# EAGLE library part DSPIC33FJ128MC708 (library microchip2)
dsPIC33 Motion Controller DSC with CAN port
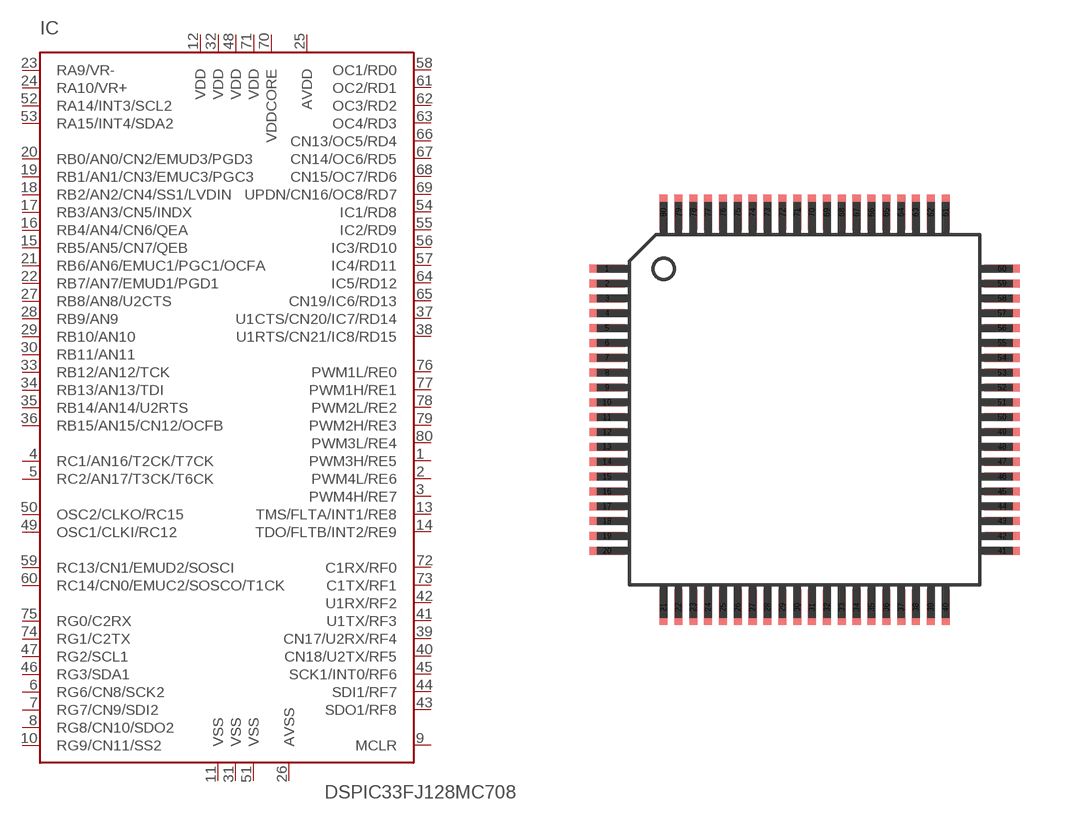
[diagram p224: symbol with the pads of TQFP80_12X12; footprint TQFP80_12X12]

Designator prefix IC

## DSPIC33FJ128MC708/PT  [TQFP80_12X12]
1  PWM3H/RE5
2  PWM4L/RE6
3  PWM4H/RE7
4  RC1/AN16/T2CK/T7CK
5  RC2/AN17/T3CK/T6CK
6  RG6/CN8/SCK2
7  RG7/CN9/SDI2
8  RG8/CN10/SDO2
9  MCLR  in
10  RG9/CN11/SS2
11  VSS  pwr
12  VDD  pwr
13  TMS/FLTA/INT1/RE8
14  TDO/FLTB/INT2/RE9
15  RB5/AN5/CN7/QEB
16  RB4/AN4/CN6/QEA
17  RB3/AN3/CN5/INDX
18  RB2/AN2/CN4/SS1/LVDIN
19  RB1/AN1/CN3/EMUC3/PGC3
20  RB0/AN0/CN2/EMUD3/PGD3
21  RB6/AN6/EMUC1/PGC1/OCFA
22  RB7/AN7/EMUD1/PGD1
23  RA9/VR-
24  RA10/VR+
25  AVDD  pwr
26  AVSS  pwr
27  RB8/AN8/U2CTS
28  RB9/AN9
29  RB10/AN10
30  RB11/AN11
31  VSS  pwr
32  VDD  pwr
33  RB12/AN12/TCK
34  RB13/AN13/TDI
35  RB14/AN14/U2RTS
36  RB15/AN15/CN12/OCFB
37  U1CTS/CN20/IC7/RD14
38  U1RTS/CN21/IC8/RD15
39  CN17/U2RX/RF4
40  CN18/U2TX/RF5
41  U1TX/RF3
42  U1RX/RF2
43  SDO1/RF8
44  SDI1/RF7
45  SCK1/INT0/RF6
46  RG3/SDA1
47  RG2/SCL1
48  VDD  pwr
49  OSC1/CLKI/RC12
50  OSC2/CLKO/RC15
51  VSS  pwr
52  RA14/INT3/SCL2
53  RA15/INT4/SDA2
54  IC1/RD8
55  IC2/RD9
56  IC3/RD10
57  IC4/RD11
58  OC1/RD0
59  RC13/CN1/EMUD2/SOSCI
60  RC14/CN0/EMUC2/SOSCO/T1CK
61  OC2/RD1
62  OC3/RD2
63  OC4/RD3
64  IC5/RD12
65  CN19/IC6/RD13
66  CN13/OC5/RD4
67  CN14/OC6/RD5
68  CN15/OC7/RD6
69  UPDN/CN16/OC8/RD7
70  VDDCORE  pwr
71  VDD  pwr
72  C1RX/RF0
73  C1TX/RF1
74  RG1/C2TX
75  RG0/C2RX
76  PWM1L/RE0
77  PWM1H/RE1
78  PWM2L/RE2
79  PWM2H/RE3
80  PWM3L/RE4

## Footprint TQFP80_12X12 (pad centres in mm)
Thin Quad Flat Pack
smd 1.2 x 0.27: 1 -6.65,4.75; 2 -6.65,4.25; 3 -6.65,3.75; 4 -6.65,3.25; 5 -6.65,2.75; 6 -6.65,2.25; 7 -6.65,1.75; 8 -6.65,1.25; 9 -6.65,0.75; 10 -6.65,0.25; 11 -6.65,-0.25; 12 -6.65,-0.75; 13 -6.65,-1.25; 14 -6.65,-1.75; 15 -6.65,-2.25; 16 -6.65,-2.75; 17 -6.65,-3.25; 18 -6.65,-3.75; 19 -6.65,-4.25; 20 -6.65,-4.75; 41 6.65,-4.75; 42 6.65,-4.25; 43 6.65,-3.75; 44 6.65,-3.25; 45 6.65,-2.75; 46 6.65,-2.25; 47 6.65,-1.75; 48 6.65,-1.25; 49 6.65,-0.75; 50 6.65,-0.25; 51 6.65,0.25; 52 6.65,0.75; 53 6.65,1.25; 54 6.65,1.75; 55 6.65,2.25; 56 6.65,2.75; 57 6.65,3.25; 58 6.65,3.75; 59 6.65,4.25; 60 6.65,4.75
smd 0.27 x 1.2: 21 -4.75,-6.65; 22 -4.25,-6.65; 23 -3.75,-6.65; 24 -3.25,-6.65; 25 -2.75,-6.65; 26 -2.25,-6.65; 27 -1.75,-6.65; 28 -1.25,-6.65; 29 -0.75,-6.65; 30 -0.25,-6.65; 31 0.25,-6.65; 32 0.75,-6.65; 33 1.25,-6.65; 34 1.75,-6.65; 35 2.25,-6.65; 36 2.75,-6.65; 37 3.25,-6.65; 38 3.75,-6.65; 39 4.25,-6.65; 40 4.75,-6.65; 61 4.75,6.65; 62 4.25,6.65; 63 3.75,6.65; 64 3.25,6.65; 65 2.75,6.65; 66 2.25,6.65; 67 1.75,6.65; 68 1.25,6.65; 69 0.75,6.65; 70 0.25,6.65; 71 -0.25,6.65; 72 -0.75,6.65; 73 -1.25,6.65; 74 -1.75,6.65; 75 -2.25,6.65; 76 -2.75,6.65; 77 -3.25,6.65; 78 -3.75,6.65; 79 -4.25,6.65; 80 -4.75,6.65